# Altium schematic symbol library Inductor_buzzer.SchLib: 1 symbol
Pins are listed as number, name and electrical type; pins without a type are passive.

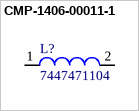
[diagram p0: symbol CMP-1406-00011-1]

## CMP-1406-00011-1
designator L?, comment 7447471104
Shielded Radial Leaded Wire Wound Inductor WE-TIS, L=100000 µH; Manufacturer: Wuerth Elektronik; Inductance: 100000 ÂµH; ComponentLink2URL: http://www.we-online.de/katalog/media/pdf/7447471104.pdf; ComponentLink1Description: Manufacturer URL; ComponentLink2Description: Datasheet; PartNumber: 7447471104; ComponentLink1URL: http://www.we-online.com; PackageReference: WE-TIS 1111
footprint WE-TIS 1111 (THT, 2-Leads, Body 11,0x11,0mm, Pitch 5mm)
pins: 1, 2